# Altium integrated library ECS-.327-12.5-34R-C-TR.IntLib: 1 symbol
Pins are listed as number, name and electrical type; pins without a type are passive.

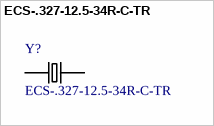
[diagram p0: symbol ECS-.327-12.5-34R-C-TR]

## ECS-.327-12.5-34R-C-TR
designator Y?
Crystal 0.032768MHz Â±10ppm _Tol_ 12.5pF Flexural 50000Ohm 2-Pin Mini-CSMD T/R; MF: ECS International; Digi-Key_Part_Number: XC2127CT-ND; SnapEDA_Link: https://www.snapeda.com/parts/ECS-.327-12.5-34R-C-TR/ECS%20Inc./view-part/?ref=snap; MP: ECS-.327-12.5-34R-C-TR; Package: SMD-2 ECS International; Digi-Key_Purchase_URL: https://www.digikey.com/product-detail/en/ecs-inc/ECS-.327-12.5-34R-C-TR/XC2127CT-ND/5875610?utm_source=snapeda&utm_medium=aggregator&utm_campaign=symbol; Value: *
footprint XTAL_ECS-.327-12.5-34R-C-TR
pins: 1 IN/OUT, 2 OUT/IN